# EAGLE library part SN74HC02DR (library LogicICs)
SN74HC02DR, Quad, Dual Input Nor Gate
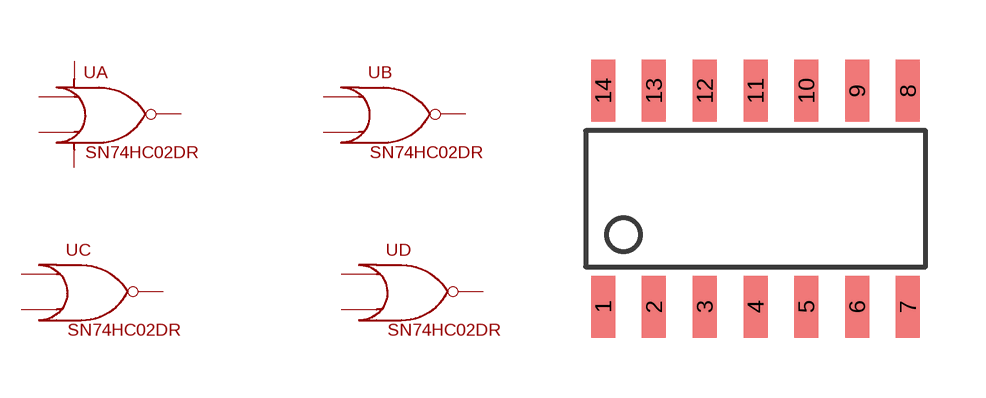
[diagram p1: symbol with the pads of 14-SOIC; footprint 14-SOIC]

Designator prefix U; gates A=NOR_PWR B=NOR C=NOR D=NOR

## SN74HC02DR (DIGIKEYPART#: 296-1188-1-ND)  [14-SOIC]
1  A:O1  out
2  A:I0  in
3  A:I1  in
4  B:O1  out
5  B:I0  in
6  B:I1  in
7  A:7  pwr
8  C:I0  in
9  C:I1  in
10  C:O1  out
11  D:I0  in
12  D:I1  in
13  D:O1  out
14  A:14  pwr

## Footprint 14-SOIC (pad centres in mm)
SOIC-14 Package
smd 0.6 x 1.55: 1 -3.81,-2.7; 2 -2.54,-2.7; 3 -1.27,-2.7; 4 0,-2.7; 5 1.27,-2.7; 6 2.54,-2.7; 7 3.81,-2.7; 8 3.81,2.7; 9 2.54,2.7; 10 1.27,2.7; 11 0,2.7; 12 -1.27,2.7; 13 -2.54,2.7; 14 -3.81,2.7